# Altium schematic symbol library MISCESCH.SCHLIB: 351 symbols (part 2 of 2)
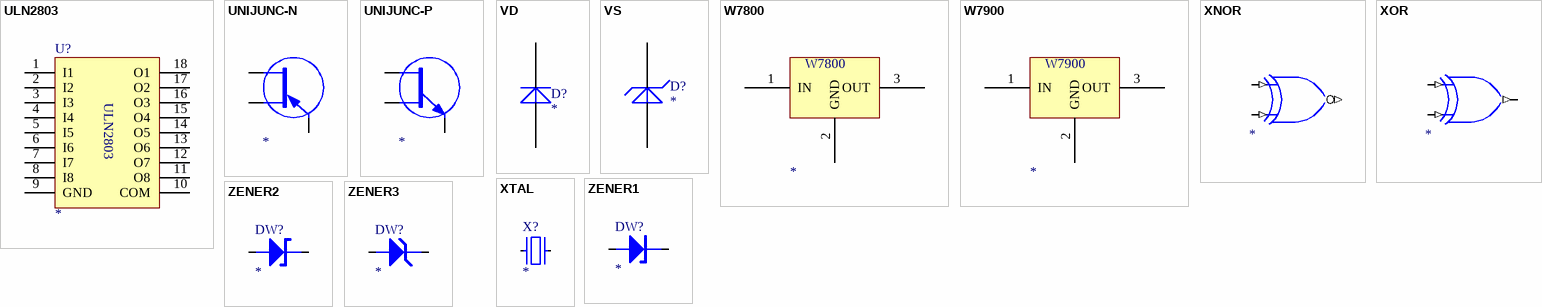
[diagram p12: symbols ULN2803 to ZENER3]

## ZENER1
designator DW?
footprint DW400
footprint DW300
footprint DW1
pins: A, K

## ZENER2
designator DW?
footprint DW400
footprint DW300
footprint DW1
pins: A, K

## ZENER3
designator DW?
footprint DW400
footprint DW300
footprint DW1
pins: 1, 2